# Altium integrated library Linear Technology Power Management Switching Regulator LTC1174-LTC3901.IntLib: 2647 symbols (part 356 of 364)
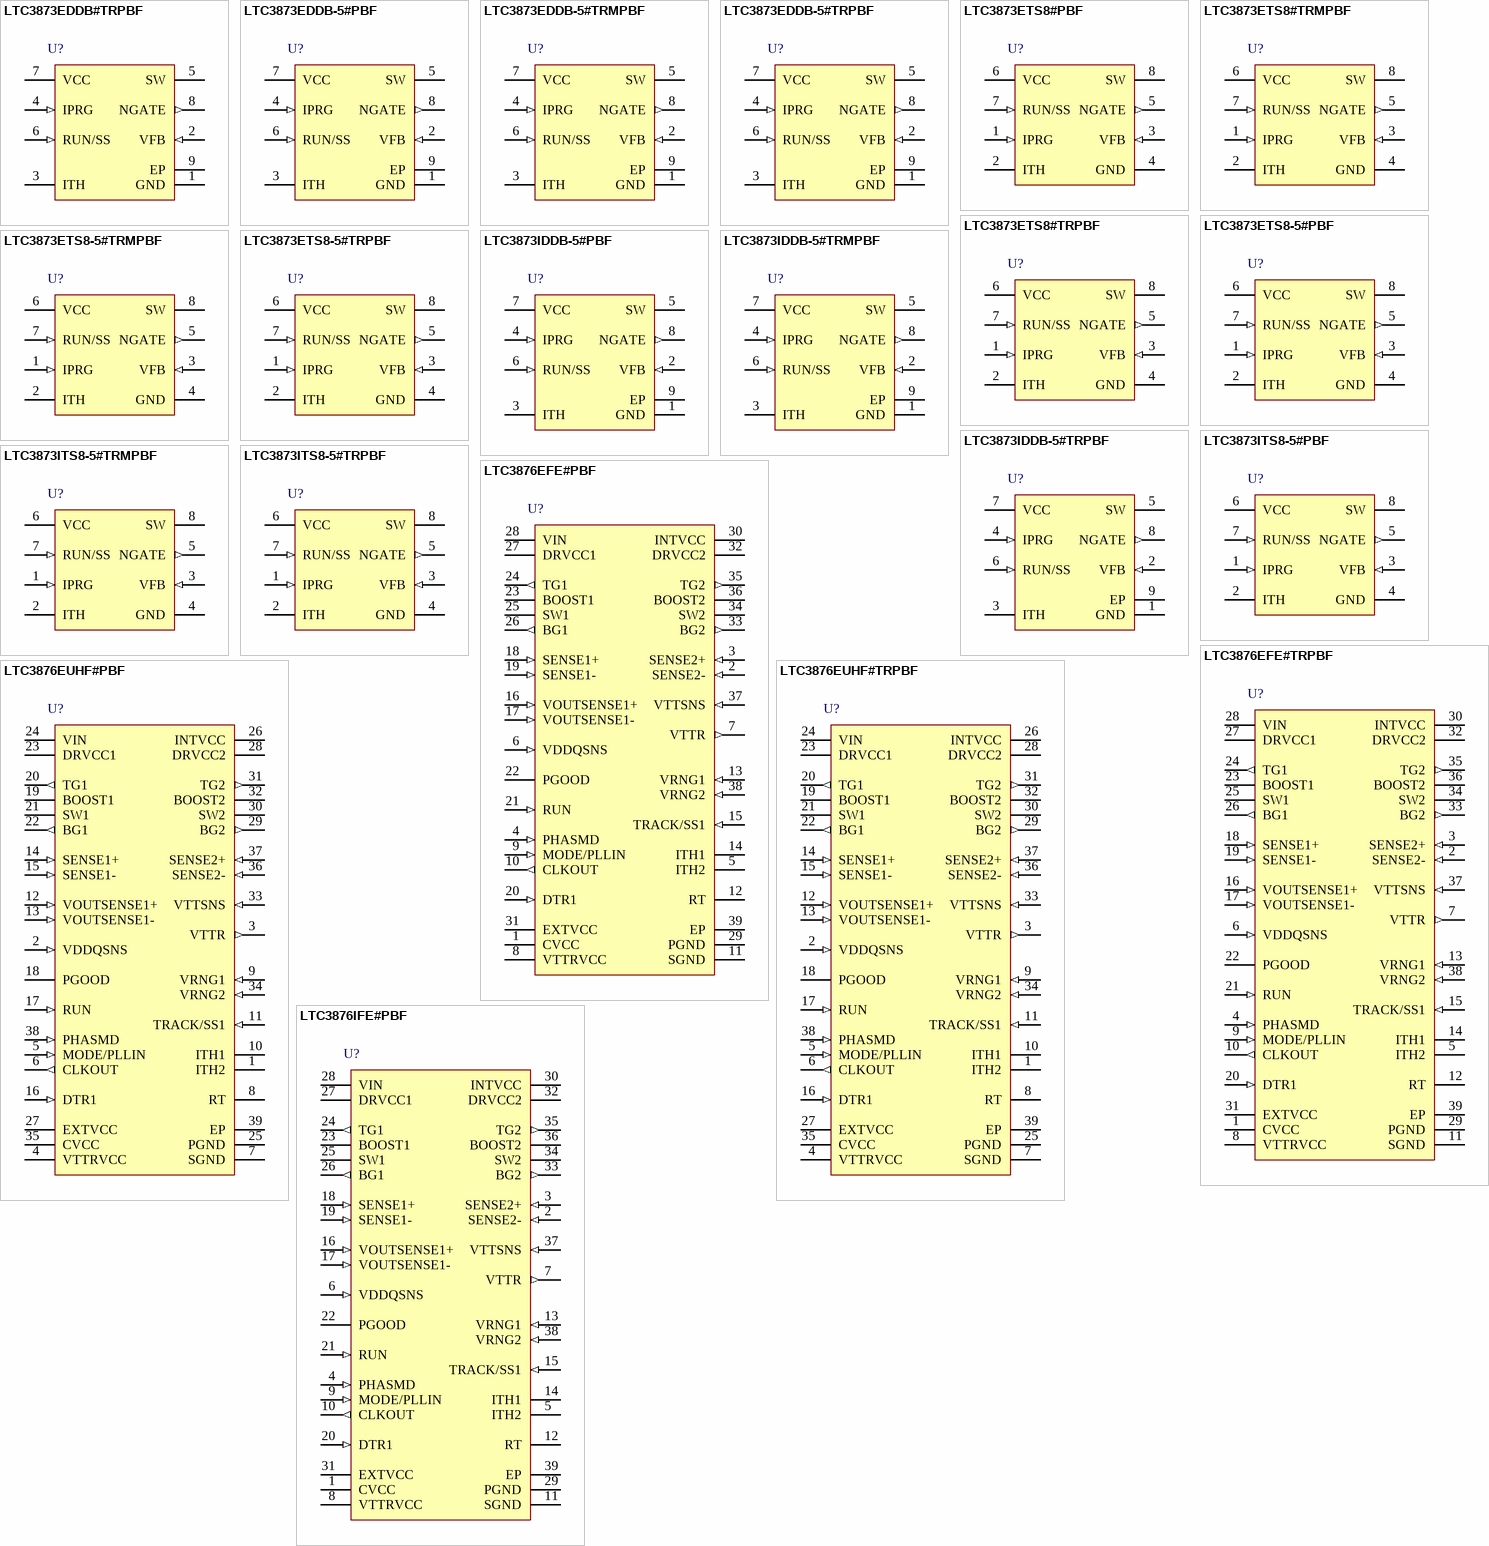
[diagram p301: symbols LTC3873EDDB#TRPBF to LTC3876IFE#PBF]

## LTC3876EFE#TRPBF
designator U?
Dual DC/DC Controller for DDR Power with Differential VDDQ Sensing and +/-50 mA VTT Reference, 38-pin SOP (FE-38-EPV-AA), -40 to 125 degC, Pb-Free, Tape and Reel; Manufacturer: Linear Technology; PartNumber: LTC3876EFE#TRPBF; Frequency Sync Range: 200kHz - 2MHz; Number of Outputs: 3; PackageVersion: Rev. C, 09/2010; PackageReference: FE-38; PackageDescription: 38-Pin Plastic TSSOP, Body 9.7 x 4.4 mm, Pitch 0.5 mm; Supplier 1: Digi-Key; Supplier Part Number 1: LTC3876EFE#TRPBF-ND; Packing: Tape and Reel; RoHS: TRUE; Mounting Technology: Surface Mount; ComponentLink1Description: Manufacturer URL; ComponentLink1URL: http://www.linear.com/; ComponentLink2Description: Datasheet; ComponentLink2URL: http://cds.linear.com/docs/en/datasheet/3876f.pdf; ComponentLink3Description: Package Specification; ComponentLink3URL: http://cds.linear.com/docs/en/packaging/TSSOP_38_05-08-1772.pdf
footprint LT-FE-38-EPV-AA_N (SOP, 38-Leads, Body 9.8x4.5mm, Pitch 0.5mm, Thermal Pad 4.75x2.74mm, IPC Medium Density)
footprint LT-FE-38-EPV-AA_L (SOP, 38-Leads, Body 9.8x4.5mm, Pitch 0.5mm, Thermal Pad 4.75x2.74mm, IPC High Density)
footprint LT-FE-38-EPV-AA_M (SOP, 38-Leads, Body 9.8x4.5mm, Pitch 0.5mm, Thermal Pad 4.75x2.74mm, IPC Low Density)
pins: 1 CVCC (power) "Connect VCC. This pin should always be connected to INTVCC.", 2 SENSE2- (in) "Differential Current Comparator(-) Input. The comparator can be used for RSENSE sensing or inductor DCR sensing. For RSENSE current sensing Kelvin (4-wire) connect the SENSE- pin to the (-) terminal of RSENSE. For DCR (See Datasheet)", 3 SENSE2+ (in) "Differential Current Comparator (+) Input. The ITH pin voltage and controlled offsets between the SENSE+ and SENSE- pins set the current trip threshold. The comparator can be used for RSENSE sensing or inductor DCR sensing. (See Datasheet)", 4 PHASMD (in) "Phase Selector Input. This pin determines the relative phases of channels and the CLKOUT signal. With zero phase being defined as the rising edge of TG1: Pulling this pin to SGND locks TG2 to 180degrees and CLKOUT to (See Datasheet)", 5 ITH2 "Channel 2 VTT Current Control Threshold. This pin is the output of the error amplifier and the switching regulator’s compensation point. The current comparator threshold increases with this control voltage. This voltag(See Datasheet)", 6 VDDQSNS (in) "VDDQ Sense. VDDQSNS provides the VDDQ regulation reference point to the VTT differential reference resistor divider. The positive Input to the VTT differential reference resistor divider is VDDQSNS and negative input is (See Datasheet)", 7 VTTR (out) "VTT Reference. VTTR is the buffered output of the VTT differential reference resistor divider. VTTR is specifically designed for large DDR memory systems by providing superior accuracy and load regulation specified for up to (See Datasheet)", 8 VTTRVCC (power) "VTTR Supply Input for VTTR Reference. Connect to DRVCC through an RC decoupling filter of 2.2uF and 1ohm typically.", 9 MODE/PLLIN (in) "Operation Mode Selection or External Clock Synchronization Input. When this pin is tied to INTVCC forced continuous mode operation is selected. Typing this pin to SGND allows discontinuous mode operation on channel 1, VDDQ (See Datasheet)", 10 CLKOUT (out) "Clock Output of Internal Clock Generator. Its output level swings between INTVCC and SGND. If clock input is present at the MODE/PLLIN pin, it will be synchronized to the input clock, with phase set by the PHASMD pin. If no (See Datasheet)", 11 SGND (power) "Signal Ground. All small-signal analog components should be connected to this ground. Connect SGND to the exposed pad and PGND pin using a single PCB trace.", 12 RT "Clock Generator Frequency Programming Pin. Connect an external resistor from RT to SGND to program the switching frequency between 200kHz and 2MHz. An external clock applied to MODE/PLLIN should be within +/-30% of this (See Datasheet)", 13 VRNG1 (in) "Current Sense Voltage Range Inputs. When programmed between 0.6V and 2V, the voltage applied to VRNG1,2 is twenty times (20x) the maximum sense voltage between SENSE1,2+ and SENSE1,2-, i.e., for either channel, (VSENSE+ - (See Datasheet)", 14 ITH1 "Channel 1 VDDQ Current Control Threshold. This pin is the output of the error amplifier and the switching regulator’s compensation point. The current comparator threshold increases with this control voltage. The voltag(See Datasheet)", 15 TRACK/SS1 (in) "External Tracking and SoftStart Input for Channel 1 VDDQ . An internal 1uA temperature-independent pull-up current source is connected to the TRACK/SS1 pin. A capacitor to ground at this pin sets the ramp time to the final (See Datasheet)", 16 VOUTSENSE1+ (in) "VDDQ Differential Output Sense Amplifier (+) Input of Channel 1. Connect this pin to a feedback resistor divider between the positive and negative output capacitor terminals of VOUT1. In nominal operation the LTC3876 will (See Datasheet)", 17 VOUTSENSE1- (in) "Differential Output Sense Amplifier (-) Input of Channel 1. Connect this pin to the negative terminal of the output load capacitor. This pin is the remote ground connection for VDDQSNS which provides the input to the VTT (See Datasheet)", 18 SENSE1+ (in) "Differential Current Comparator (+) Input. The ITH pin voltage and controlled offsets between the SENSE+ and SENSE- pins set the current trip threshold. The comparator can be used for RSENSE sensing or inductor DCR sensing. (See Datasheet)", 19 SENSE1- (in) "Differential Current Comparator(-) Input. The comparator can be used for RSENSE sensing or inductor DCR sensing. For RSENSE current sensing Kelvin (4-wire) connect the SENSE- pin to the (-) terminal of RSENSE. For DCR (See Datasheet)", 20 DTR1 (in) "Detect Load Transient Transient for Overshoot Reduction. When load current suddenly drops, if voltage on this DTR pin drops below half of INTVCC, the bottom gate (BG) will turn off and allow the inductor current to drop to (See Datasheet)", 21 RUN (in) "Run Control Input. An internal proportional-to-absolute temperature (PTAT) pull-up current source (~2.5uA at 25degrees) is constantly connected to this pin. Taking RUN below a threshold (~0.8V at 25degrees) shuts down all (See Datasheet)", 22 PGOOD (oc) "Power Good Indicator Output. This open-drain logic output is pulled to ground when VDDQ goes out of a +/-7.5% or VTT goes out of a +/-10% window around the regulation point, after a 50us power-bad masking delay. Returning to (See Datasheet)", 23 BOOST1 "Boosted Floating Driver Supply for Top MOSFET Drivers. The (+) terminal of the bootstrap capacitor CB connects to this pin. The BOOST pins swings between (DRVCC - VSCHOTTKY) and (VIN + DRVCC - VSCHOTTKY).", 24 TG1 (out) "Top Gate Driver Outputs. The TG pins drive the gates of the top N-channel power MOSFET with a voltage swing of DRVCC between SW and BOOST.", 25 SW1 "Switch Node Connection to Inductors. Voltage swings are from a diode voltage below ground to VIN. The (-) terminal of the bootstrap capacitor, CB connects to this node.", 26 BG1 (out) "Bottom Gate Driver Outputs. The BG pins drive the gates of the bottom N-channel power MOSFET between PGND and DRVCC.", 27 DRVCC1 (power) "Supplies of Bottom Gate Drivers. DRVCC1 is also the output of an internal 5.3V regulator, DRVCC2 is also the output of the EXTVCC switch. Normally the two DRVCC pins are shorted together on the PCB, and decoupled to PGND (See Datasheet)", 28 VIN (power) "Input Voltage Supply. The supply voltage can range from 4.5V to 38V. For increased noise immunity decouple this pin to SGND with an RC filter. Voltage at this pin is also used to adjust top gate on-time, therefore it is (See Datasheet)", 29 PGND (power) "Power Ground. Connect this pin as close as practical to the source of the bottom N-channel power MOSFET, the (-) terminal of CDRVCC and the (-) terminal of CIN. Connect the exposed pad and PGND pin to SGND pin using a single (See Datasheet)", 30 INTVCC (power) "Supply Input for Internal Circuitry (Not Including Gate Drivers). Normally powered from the DRVCC pins through a decoupling RC filter to SGND (typically 2.2ohm and 1uF)", 31 EXTVCC (power) "External Power Input. When EXTVCC exceeds 4.7V, an internal switch connects this pin to DRVCC2 and shuts down the internal regulator so that INTVCC and gate-drive power is drawn from EXTVCC. The VIN pin still needs to be (See Datasheet)", 32 DRVCC2 (power) "Supplies of Bottom Gate Drivers. DRVCC1 is also the output of an internal 5.3V regulator, DRVCC2 is also the output of the EXTVCC switch. Normally the two DRVCC pins are shorted together on the PCB, and decoupled to PGND (See Datasheet)", 33 BG2 (out) "Bottom Gate Driver Outputs. The BG pins drive the gates of the bottom N-channel power MOSFET between PGND and DRVCC.", 34 SW2 "Switch Node Connection to Inductors. Voltage swings are from a diode voltage below ground to VIN. The (-) terminal of the bootstrap capacitor, CB connects to this node.", 35 TG2 (out) "Top Gate Driver Outputs. The TG pins drive the gates of the top N-channel power MOSFET with a voltage swing of DRVCC between SW and BOOST.", 36 BOOST2 "Boosted Floating Driver Supply for Top MOSFET Drivers. The (+) terminal of the bootstrap capacitor CB connects to this pin. The BOOST pins swings between (DRVCC - VSCHOTTKY) and (VIN + DRVCC - VSCHOTTKY).", 37 VTTSNS (in) "VTT Sense, Channel 2 Error Amplifier Feedback Input. Kelvin-connect this pin directly to desired regulation point on the VTT supply, VTTSNS provides the inverting regulation feedback signal for the VTT termination supply. (See Datasheet)", 38 VRNG2 (in) "Current Sense Voltage Range Inputs. When programmed between 0.6V and 2V, the voltage applied to VRNG1,2 is twenty times (20x) the maximum sense voltage between SENSE1,2+ and SENSE1,2-, i.e., for either channel, (VSENSE+ - (See Datasheet)", 39 EP (power) "Power Ground. Connect this pin as close as practical to the source of the bottom N-channel power MOSFET, the (-) terminal of CDRVCC and the (-) terminal of CIN. Connect the exposed pad and PGND pin to SGND pin using a single (See Datasheet)"

## LTC3876EUHF#PBF
designator U?
Dual DC/DC Controller for DDR Power with Differential VDDQ Sensing and +/-50 mA VTT Reference, 38-pin QFN (UHF-38), -40 to 125 degC, Pb-Free; Manufacturer: Linear Technology; PartNumber: LTC3876EUHF#PBF; Frequency Sync Range: 200kHz - 2MHz; Number of Outputs: 3; PackageVersion: Rev. C, 06/2010; PackageReference: UHF-38; PackageDescription: 38-Pin Plastic QFN, Body 7 x 5 mm, Pitch 0.5 mm; Supplier 1: Digi-Key; Supplier Part Number 1: LTC3876EUHF#PBF-ND; Supplier 2: Newark; Supplier Part Number 2: 78T3283; RoHS: TRUE; Mounting Technology: Surface Mount; Code_JEDEC: MO-220; ComponentLink1Description: Manufacturer URL; ComponentLink1URL: http://www.linear.com/; ComponentLink2Description: Datasheet; ComponentLink2URL: http://cds.linear.com/docs/en/datasheet/3876f.pdf; ComponentLink3Description: Package Specification; ComponentLink3URL: http://cds.linear.com/docs/en/packaging/QFN_38_05-08-1701.pdf
footprint LT-UHF-38_N (QFN, 38-Leads, Body 7.1x5.1mm, Pitch 0.5mm, Thermal Pad 3.15x5.15mm, IPC Medium Density)
footprint LT-UHF-38_L (QFN, 38-Leads, Body 7.1x5.1mm, Pitch 0.5mm, Thermal Pad 3.15x5.15mm, IPC High Density)
footprint LT-UHF-38_M (QFN, 38-Leads, Body 7.1x5.1mm, Pitch 0.5mm, Thermal Pad 3.15x5.15mm, IPC Low Density)
pins: 1 ITH2 "Channel 2 VTT Current Control Threshold. This pin is the output of the error amplifier and the switching regulator’s compensation point. The current comparator threshold increases with this control voltage. This voltag(See Datasheet)", 2 VDDQSNS (in) "VDDQ Sense. VDDQSNS provides the VDDQ regulation reference point to the VTT differential reference resistor divider. The positive Input to the VTT differential reference resistor divider is VDDQSNS and negative input is (See Datasheet)", 3 VTTR (out) "VTT Reference. VTTR is the buffered output of the VTT differential reference resistor divider. VTTR is specifically designed for large DDR memory systems by providing superior accuracy and load regulation specified for up to (See Datasheet)", 4 VTTRVCC (power) "VTTR Supply Input for VTTR Reference. Connect to DRVCC through an RC decoupling filter of 2.2uF and 1ohm typically.", 5 MODE/PLLIN (in) "Operation Mode Selection or External Clock Synchronization Input. When this pin is tied to INTVCC forced continuous mode operation is selected. Typing this pin to SGND allows discontinuous mode operation on channel 1, VDDQ (See Datasheet)", 6 CLKOUT (out) "Clock Output of Internal Clock Generator. Its output level swings between INTVCC and SGND. If clock input is present at the MODE/PLLIN pin, it will be synchronized to the input clock, with phase set by the PHASMD pin. If no (See Datasheet)", 7 SGND (power) "Signal Ground. All small-signal analog components should be connected to this ground. Connect SGND to the exposed pad and PGND pin using a single PCB trace.", 8 RT "Clock Generator Frequency Programming Pin. Connect an external resistor from RT to SGND to program the switching frequency between 200kHz and 2MHz. An external clock applied to MODE/PLLIN should be within +/-30% of this (See Datasheet)", 9 VRNG1 (in) "Current Sense Voltage Range Inputs. When programmed between 0.6V and 2V, the voltage applied to VRNG1,2 is twenty times (20x) the maximum sense voltage between SENSE1,2+ and SENSE1,2-, i.e., for either channel, (VSENSE+ - (See Datasheet)", 10 ITH1 "Channel 1 VDDQ Current Control Threshold. This pin is the output of the error amplifier and the switching regulator’s compensation point. The current comparator threshold increases with this control voltage. The voltag(See Datasheet)", 11 TRACK/SS1 (in) "External Tracking and SoftStart Input for Channel 1 VDDQ . An internal 1uA temperature-independent pull-up current source is connected to the TRACK/SS1 pin. A capacitor to ground at this pin sets the ramp time to the final (See Datasheet)", 12 VOUTSENSE1+ (in) "VDDQ Differential Output Sense Amplifier (+) Input of Channel 1. Connect this pin to a feedback resistor divider between the positive and negative output capacitor terminals of VOUT1. In nominal operation the LTC3876 will (See Datasheet)", 13 VOUTSENSE1- (in) "Differential Output Sense Amplifier (-) Input of Channel 1. Connect this pin to the negative terminal of the output load capacitor. This pin is the remote ground connection for VDDQSNS which provides the input to the VTT (See Datasheet)", 14 SENSE1+ (in) "Differential Current Comparator (+) Input. The ITH pin voltage and controlled offsets between the SENSE+ and SENSE- pins set the current trip threshold. The comparator can be used for RSENSE sensing or inductor DCR sensing. (See Datasheet)", 15 SENSE1- (in) "Differential Current Comparator(-) Input. The comparator can be used for RSENSE sensing or inductor DCR sensing. For RSENSE current sensing Kelvin (4-wire) connect the SENSE- pin to the (-) terminal of RSENSE. For DCR (See Datasheet)", 16 DTR1 (in) "Detect Load Transient Transient for Overshoot Reduction. When load current suddenly drops, if voltage on this DTR pin drops below half of INTVCC, the bottom gate (BG) will turn off and allow the inductor current to drop to (See Datasheet)", 17 RUN (in) "Run Control Input. An internal proportional-to-absolute temperature (PTAT) pull-up current source (~2.5uA at 25degrees) is constantly connected to this pin. Taking RUN below a threshold (~0.8V at 25degrees) shuts down all (See Datasheet)", 18 PGOOD (oc) "Power Good Indicator Output. This open-drain logic output is pulled to ground when VDDQ goes out of a +/-7.5% or VTT goes out of a +/-10% window around the regulation point, after a 50us power-bad masking delay. Returning to (See Datasheet)", 19 BOOST1 "Boosted Floating Driver Supply for Top MOSFET Drivers. The (+) terminal of the bootstrap capacitor CB connects to this pin. The BOOST pins swings between (DRVCC - VSCHOTTKY) and (VIN + DRVCC - VSCHOTTKY).", 20 TG1 (out) "Top Gate Driver Outputs. The TG pins drive the gates of the top N-channel power MOSFET with a voltage swing of DRVCC between SW and BOOST.", 21 SW1 "Switch Node Connection to Inductors. Voltage swings are from a diode voltage below ground to VIN. The (-) terminal of the bootstrap capacitor, CB connects to this node.", 22 BG1 (out) "Bottom Gate Driver Outputs. The BG pins drive the gates of the bottom N-channel power MOSFET between PGND and DRVCC.", 23 DRVCC1 (power) "Supplies of Bottom Gate Drivers. DRVCC1 is also the output of an internal 5.3V regulator, DRVCC2 is also the output of the EXTVCC switch. Normally the two DRVCC pins are shorted together on the PCB, and decoupled to PGND (See Datasheet)", 24 VIN (power) "Input Voltage Supply. The supply voltage can range from 4.5V to 38V. For increased noise immunity decouple this pin to SGND with an RC filter. Voltage at this pin is also used to adjust top gate on-time, therefore it is (See Datasheet)", 25 PGND (power) "Power Ground. Connect this pin as close as practical to the source of the bottom N-channel power MOSFET, the (-) terminal of CDRVCC and the (-) terminal of CIN. Connect the exposed pad and PGND pin to SGND pin using a single (See Datasheet)", 26 INTVCC (power) "Supply Input for Internal Circuitry (Not Including Gate Drivers). Normally powered from the DRVCC pins through a decoupling RC filter to SGND (typically 2.2ohm and 1uF)", 27 EXTVCC (power) "External Power Input. When EXTVCC exceeds 4.7V, an internal switch connects this pin to DRVCC2 and shuts down the internal regulator so that INTVCC and gate-drive power is drawn from EXTVCC. The VIN pin still needs to be (See Datasheet)", 28 DRVCC2 (power) "Supplies of Bottom Gate Drivers. DRVCC1 is also the output of an internal 5.3V regulator, DRVCC2 is also the output of the EXTVCC switch. Normally the two DRVCC pins are shorted together on the PCB, and decoupled to PGND (See Datasheet)", 29 BG2 (out) "Bottom Gate Driver Outputs. The BG pins drive the gates of the bottom N-channel power MOSFET between PGND and DRVCC.", 30 SW2 "Switch Node Connection to Inductors. Voltage swings are from a diode voltage below ground to VIN. The (-) terminal of the bootstrap capacitor, CB connects to this node.", 31 TG2 (out) "Top Gate Driver Outputs. The TG pins drive the gates of the top N-channel power MOSFET with a voltage swing of DRVCC between SW and BOOST.", 32 BOOST2 "Boosted Floating Driver Supply for Top MOSFET Drivers. The (+) terminal of the bootstrap capacitor CB connects to this pin. The BOOST pins swings between (DRVCC - VSCHOTTKY) and (VIN + DRVCC - VSCHOTTKY).", 33 VTTSNS (in) "VTT Sense, Channel 2 Error Amplifier Feedback Input. Kelvin-connect this pin directly to desired regulation point on the VTT supply, VTTSNS provides the inverting regulation feedback signal for the VTT termination supply. (See Datasheet)", 34 VRNG2 (in) "Current Sense Voltage Range Inputs. When programmed between 0.6V and 2V, the voltage applied to VRNG1,2 is twenty times (20x) the maximum sense voltage between SENSE1,2+ and SENSE1,2-, i.e., for either channel, (VSENSE+ - (See Datasheet)", 35 CVCC (power) "Connect VCC. This pin should always be connected to INTVCC.", 36 SENSE2- (in) "Differential Current Comparator(-) Input. The comparator can be used for RSENSE sensing or inductor DCR sensing. For RSENSE current sensing Kelvin (4-wire) connect the SENSE- pin to the (-) terminal of RSENSE. For DCR (See Datasheet)", 37 SENSE2+ (in) "Differential Current Comparator (+) Input. The ITH pin voltage and controlled offsets between the SENSE+ and SENSE- pins set the current trip threshold. The comparator can be used for RSENSE sensing or inductor DCR sensing. (See Datasheet)", 38 PHASMD (in) "Phase Selector Input. This pin determines the relative phases of channels and the CLKOUT signal. With zero phase being defined as the rising edge of TG1: Pulling this pin to SGND locks TG2 to 180degrees and CLKOUT to (See Datasheet)", 39 EP (power) "Power Ground. Connect this pin as close as practical to the source of the bottom N-channel power MOSFET, the (-) terminal of CDRVCC and the (-) terminal of CIN. Connect the exposed pad and PGND pin to SGND pin using a single (See Datasheet)"

## LTC3876EUHF#TRPBF
designator U?
Dual DC/DC Controller for DDR Power with Differential VDDQ Sensing and +/-50 mA VTT Reference, 38-pin QFN (UHF-38), -40 to 125 degC, Pb-Free, Tape and Reel; Manufacturer: Linear Technology; PartNumber: LTC3876EUHF#TRPBF; Frequency Sync Range: 200kHz - 2MHz; Number of Outputs: 3; PackageVersion: Rev. C, 06/2010; PackageReference: UHF-38; PackageDescription: 38-Pin Plastic QFN, Body 7 x 5 mm, Pitch 0.5 mm; Supplier 1: Digi-Key; Supplier Part Number 1: LTC3876EUHF#TRPBF-ND; Packing: Tape and Reel; RoHS: TRUE; Mounting Technology: Surface Mount; Code_JEDEC: MO-220; ComponentLink1Description: Manufacturer URL; ComponentLink1URL: http://www.linear.com/; ComponentLink2Description: Datasheet; ComponentLink2URL: http://cds.linear.com/docs/en/datasheet/3876f.pdf; ComponentLink3Description: Package Specification; ComponentLink3URL: http://cds.linear.com/docs/en/packaging/QFN_38_05-08-1701.pdf
footprint LT-UHF-38_N (QFN, 38-Leads, Body 7.1x5.1mm, Pitch 0.5mm, Thermal Pad 3.15x5.15mm, IPC Medium Density)
footprint LT-UHF-38_L (QFN, 38-Leads, Body 7.1x5.1mm, Pitch 0.5mm, Thermal Pad 3.15x5.15mm, IPC High Density)
footprint LT-UHF-38_M (QFN, 38-Leads, Body 7.1x5.1mm, Pitch 0.5mm, Thermal Pad 3.15x5.15mm, IPC Low Density)
pins: 1 ITH2 "Channel 2 VTT Current Control Threshold. This pin is the output of the error amplifier and the switching regulator’s compensation point. The current comparator threshold increases with this control voltage. This voltag(See Datasheet)", 2 VDDQSNS (in) "VDDQ Sense. VDDQSNS provides the VDDQ regulation reference point to the VTT differential reference resistor divider. The positive Input to the VTT differential reference resistor divider is VDDQSNS and negative input is (See Datasheet)", 3 VTTR (out) "VTT Reference. VTTR is the buffered output of the VTT differential reference resistor divider. VTTR is specifically designed for large DDR memory systems by providing superior accuracy and load regulation specified for up to (See Datasheet)", 4 VTTRVCC (power) "VTTR Supply Input for VTTR Reference. Connect to DRVCC through an RC decoupling filter of 2.2uF and 1ohm typically.", 5 MODE/PLLIN (in) "Operation Mode Selection or External Clock Synchronization Input. When this pin is tied to INTVCC forced continuous mode operation is selected. Typing this pin to SGND allows discontinuous mode operation on channel 1, VDDQ (See Datasheet)", 6 CLKOUT (out) "Clock Output of Internal Clock Generator. Its output level swings between INTVCC and SGND. If clock input is present at the MODE/PLLIN pin, it will be synchronized to the input clock, with phase set by the PHASMD pin. If no (See Datasheet)", 7 SGND (power) "Signal Ground. All small-signal analog components should be connected to this ground. Connect SGND to the exposed pad and PGND pin using a single PCB trace.", 8 RT "Clock Generator Frequency Programming Pin. Connect an external resistor from RT to SGND to program the switching frequency between 200kHz and 2MHz. An external clock applied to MODE/PLLIN should be within +/-30% of this (See Datasheet)", 9 VRNG1 (in) "Current Sense Voltage Range Inputs. When programmed between 0.6V and 2V, the voltage applied to VRNG1,2 is twenty times (20x) the maximum sense voltage between SENSE1,2+ and SENSE1,2-, i.e., for either channel, (VSENSE+ - (See Datasheet)", 10 ITH1 "Channel 1 VDDQ Current Control Threshold. This pin is the output of the error amplifier and the switching regulator’s compensation point. The current comparator threshold increases with this control voltage. The voltag(See Datasheet)", 11 TRACK/SS1 (in) "External Tracking and SoftStart Input for Channel 1 VDDQ . An internal 1uA temperature-independent pull-up current source is connected to the TRACK/SS1 pin. A capacitor to ground at this pin sets the ramp time to the final (See Datasheet)", 12 VOUTSENSE1+ (in) "VDDQ Differential Output Sense Amplifier (+) Input of Channel 1. Connect this pin to a feedback resistor divider between the positive and negative output capacitor terminals of VOUT1. In nominal operation the LTC3876 will (See Datasheet)", 13 VOUTSENSE1- (in) "Differential Output Sense Amplifier (-) Input of Channel 1. Connect this pin to the negative terminal of the output load capacitor. This pin is the remote ground connection for VDDQSNS which provides the input to the VTT (See Datasheet)", 14 SENSE1+ (in) "Differential Current Comparator (+) Input. The ITH pin voltage and controlled offsets between the SENSE+ and SENSE- pins set the current trip threshold. The comparator can be used for RSENSE sensing or inductor DCR sensing. (See Datasheet)", 15 SENSE1- (in) "Differential Current Comparator(-) Input. The comparator can be used for RSENSE sensing or inductor DCR sensing. For RSENSE current sensing Kelvin (4-wire) connect the SENSE- pin to the (-) terminal of RSENSE. For DCR (See Datasheet)", 16 DTR1 (in) "Detect Load Transient Transient for Overshoot Reduction. When load current suddenly drops, if voltage on this DTR pin drops below half of INTVCC, the bottom gate (BG) will turn off and allow the inductor current to drop to (See Datasheet)", 17 RUN (in) "Run Control Input. An internal proportional-to-absolute temperature (PTAT) pull-up current source (~2.5uA at 25degrees) is constantly connected to this pin. Taking RUN below a threshold (~0.8V at 25degrees) shuts down all (See Datasheet)", 18 PGOOD (oc) "Power Good Indicator Output. This open-drain logic output is pulled to ground when VDDQ goes out of a +/-7.5% or VTT goes out of a +/-10% window around the regulation point, after a 50us power-bad masking delay. Returning to (See Datasheet)", 19 BOOST1 "Boosted Floating Driver Supply for Top MOSFET Drivers. The (+) terminal of the bootstrap capacitor CB connects to this pin. The BOOST pins swings between (DRVCC - VSCHOTTKY) and (VIN + DRVCC - VSCHOTTKY).", 20 TG1 (out) "Top Gate Driver Outputs. The TG pins drive the gates of the top N-channel power MOSFET with a voltage swing of DRVCC between SW and BOOST.", 21 SW1 "Switch Node Connection to Inductors. Voltage swings are from a diode voltage below ground to VIN. The (-) terminal of the bootstrap capacitor, CB connects to this node.", 22 BG1 (out) "Bottom Gate Driver Outputs. The BG pins drive the gates of the bottom N-channel power MOSFET between PGND and DRVCC.", 23 DRVCC1 (power) "Supplies of Bottom Gate Drivers. DRVCC1 is also the output of an internal 5.3V regulator, DRVCC2 is also the output of the EXTVCC switch. Normally the two DRVCC pins are shorted together on the PCB, and decoupled to PGND (See Datasheet)", 24 VIN (power) "Input Voltage Supply. The supply voltage can range from 4.5V to 38V. For increased noise immunity decouple this pin to SGND with an RC filter. Voltage at this pin is also used to adjust top gate on-time, therefore it is (See Datasheet)", 25 PGND (power) "Power Ground. Connect this pin as close as practical to the source of the bottom N-channel power MOSFET, the (-) terminal of CDRVCC and the (-) terminal of CIN. Connect the exposed pad and PGND pin to SGND pin using a single (See Datasheet)", 26 INTVCC (power) "Supply Input for Internal Circuitry (Not Including Gate Drivers). Normally powered from the DRVCC pins through a decoupling RC filter to SGND (typically 2.2ohm and 1uF)", 27 EXTVCC (power) "External Power Input. When EXTVCC exceeds 4.7V, an internal switch connects this pin to DRVCC2 and shuts down the internal regulator so that INTVCC and gate-drive power is drawn from EXTVCC. The VIN pin still needs to be (See Datasheet)", 28 DRVCC2 (power) "Supplies of Bottom Gate Drivers. DRVCC1 is also the output of an internal 5.3V regulator, DRVCC2 is also the output of the EXTVCC switch. Normally the two DRVCC pins are shorted together on the PCB, and decoupled to PGND (See Datasheet)", 29 BG2 (out) "Bottom Gate Driver Outputs. The BG pins drive the gates of the bottom N-channel power MOSFET between PGND and DRVCC.", 30 SW2 "Switch Node Connection to Inductors. Voltage swings are from a diode voltage below ground to VIN. The (-) terminal of the bootstrap capacitor, CB connects to this node.", 31 TG2 (out) "Top Gate Driver Outputs. The TG pins drive the gates of the top N-channel power MOSFET with a voltage swing of DRVCC between SW and BOOST.", 32 BOOST2 "Boosted Floating Driver Supply for Top MOSFET Drivers. The (+) terminal of the bootstrap capacitor CB connects to this pin. The BOOST pins swings between (DRVCC - VSCHOTTKY) and (VIN + DRVCC - VSCHOTTKY).", 33 VTTSNS (in) "VTT Sense, Channel 2 Error Amplifier Feedback Input. Kelvin-connect this pin directly to desired regulation point on the VTT supply, VTTSNS provides the inverting regulation feedback signal for the VTT termination supply. (See Datasheet)", 34 VRNG2 (in) "Current Sense Voltage Range Inputs. When programmed between 0.6V and 2V, the voltage applied to VRNG1,2 is twenty times (20x) the maximum sense voltage between SENSE1,2+ and SENSE1,2-, i.e., for either channel, (VSENSE+ - (See Datasheet)", 35 CVCC (power) "Connect VCC. This pin should always be connected to INTVCC.", 36 SENSE2- (in) "Differential Current Comparator(-) Input. The comparator can be used for RSENSE sensing or inductor DCR sensing. For RSENSE current sensing Kelvin (4-wire) connect the SENSE- pin to the (-) terminal of RSENSE. For DCR (See Datasheet)", 37 SENSE2+ (in) "Differential Current Comparator (+) Input. The ITH pin voltage and controlled offsets between the SENSE+ and SENSE- pins set the current trip threshold. The comparator can be used for RSENSE sensing or inductor DCR sensing. (See Datasheet)", 38 PHASMD (in) "Phase Selector Input. This pin determines the relative phases of channels and the CLKOUT signal. With zero phase being defined as the rising edge of TG1: Pulling this pin to SGND locks TG2 to 180degrees and CLKOUT to (See Datasheet)", 39 EP (power) "Power Ground. Connect this pin as close as practical to the source of the bottom N-channel power MOSFET, the (-) terminal of CDRVCC and the (-) terminal of CIN. Connect the exposed pad and PGND pin to SGND pin using a single (See Datasheet)"

## LTC3876IFE#PBF
designator U?
Dual DC/DC Controller for DDR Power with Differential VDDQ Sensing and +/-50 mA VTT Reference, 38-pin SOP (FE-38-EPV-AA), -40 to 125 degC, Pb-Free; Manufacturer: Linear Technology; PartNumber: LTC3876IFE#PBF; Frequency Sync Range: 200kHz - 2MHz; Number of Outputs: 3; PackageVersion: Rev. C, 09/2010; PackageReference: FE-38; PackageDescription: 38-Pin Plastic TSSOP, Body 9.7 x 4.4 mm, Pitch 0.5 mm; Supplier 1: Digi-Key; Supplier Part Number 1: LTC3876IFE#PBF-ND; RoHS: TRUE; Mounting Technology: Surface Mount; ComponentLink1Description: Manufacturer URL; ComponentLink1URL: http://www.linear.com/; ComponentLink2Description: Datasheet; ComponentLink2URL: http://cds.linear.com/docs/en/datasheet/3876f.pdf; ComponentLink3Description: Package Specification; ComponentLink3URL: http://cds.linear.com/docs/en/packaging/TSSOP_38_05-08-1772.pdf
footprint LT-FE-38-EPV-AA_N (SOP, 38-Leads, Body 9.8x4.5mm, Pitch 0.5mm, Thermal Pad 4.75x2.74mm, IPC Medium Density)
footprint LT-FE-38-EPV-AA_L (SOP, 38-Leads, Body 9.8x4.5mm, Pitch 0.5mm, Thermal Pad 4.75x2.74mm, IPC High Density)
footprint LT-FE-38-EPV-AA_M (SOP, 38-Leads, Body 9.8x4.5mm, Pitch 0.5mm, Thermal Pad 4.75x2.74mm, IPC Low Density)
pins: 1 CVCC (power) "Connect VCC. This pin should always be connected to INTVCC.", 2 SENSE2- (in) "Differential Current Comparator(-) Input. The comparator can be used for RSENSE sensing or inductor DCR sensing. For RSENSE current sensing Kelvin (4-wire) connect the SENSE- pin to the (-) terminal of RSENSE. For DCR (See Datasheet)", 3 SENSE2+ (in) "Differential Current Comparator (+) Input. The ITH pin voltage and controlled offsets between the SENSE+ and SENSE- pins set the current trip threshold. The comparator can be used for RSENSE sensing or inductor DCR sensing. (See Datasheet)", 4 PHASMD (in) "Phase Selector Input. This pin determines the relative phases of channels and the CLKOUT signal. With zero phase being defined as the rising edge of TG1: Pulling this pin to SGND locks TG2 to 180degrees and CLKOUT to (See Datasheet)", 5 ITH2 "Channel 2 VTT Current Control Threshold. This pin is the output of the error amplifier and the switching regulator’s compensation point. The current comparator threshold increases with this control voltage. This voltag(See Datasheet)", 6 VDDQSNS (in) "VDDQ Sense. VDDQSNS provides the VDDQ regulation reference point to the VTT differential reference resistor divider. The positive Input to the VTT differential reference resistor divider is VDDQSNS and negative input is (See Datasheet)", 7 VTTR (out) "VTT Reference. VTTR is the buffered output of the VTT differential reference resistor divider. VTTR is specifically designed for large DDR memory systems by providing superior accuracy and load regulation specified for up to (See Datasheet)", 8 VTTRVCC (power) "VTTR Supply Input for VTTR Reference. Connect to DRVCC through an RC decoupling filter of 2.2uF and 1ohm typically.", 9 MODE/PLLIN (in) "Operation Mode Selection or External Clock Synchronization Input. When this pin is tied to INTVCC forced continuous mode operation is selected. Typing this pin to SGND allows discontinuous mode operation on channel 1, VDDQ (See Datasheet)", 10 CLKOUT (out) "Clock Output of Internal Clock Generator. Its output level swings between INTVCC and SGND. If clock input is present at the MODE/PLLIN pin, it will be synchronized to the input clock, with phase set by the PHASMD pin. If no (See Datasheet)", 11 SGND (power) "Signal Ground. All small-signal analog components should be connected to this ground. Connect SGND to the exposed pad and PGND pin using a single PCB trace.", 12 RT "Clock Generator Frequency Programming Pin. Connect an external resistor from RT to SGND to program the switching frequency between 200kHz and 2MHz. An external clock applied to MODE/PLLIN should be within +/-30% of this (See Datasheet)", 13 VRNG1 (in) "Current Sense Voltage Range Inputs. When programmed between 0.6V and 2V, the voltage applied to VRNG1,2 is twenty times (20x) the maximum sense voltage between SENSE1,2+ and SENSE1,2-, i.e., for either channel, (VSENSE+ - (See Datasheet)", 14 ITH1 "Channel 1 VDDQ Current Control Threshold. This pin is the output of the error amplifier and the switching regulator’s compensation point. The current comparator threshold increases with this control voltage. The voltag(See Datasheet)", 15 TRACK/SS1 (in) "External Tracking and SoftStart Input for Channel 1 VDDQ . An internal 1uA temperature-independent pull-up current source is connected to the TRACK/SS1 pin. A capacitor to ground at this pin sets the ramp time to the final (See Datasheet)", 16 VOUTSENSE1+ (in) "VDDQ Differential Output Sense Amplifier (+) Input of Channel 1. Connect this pin to a feedback resistor divider between the positive and negative output capacitor terminals of VOUT1. In nominal operation the LTC3876 will (See Datasheet)", 17 VOUTSENSE1- (in) "Differential Output Sense Amplifier (-) Input of Channel 1. Connect this pin to the negative terminal of the output load capacitor. This pin is the remote ground connection for VDDQSNS which provides the input to the VTT (See Datasheet)", 18 SENSE1+ (in) "Differential Current Comparator (+) Input. The ITH pin voltage and controlled offsets between the SENSE+ and SENSE- pins set the current trip threshold. The comparator can be used for RSENSE sensing or inductor DCR sensing. (See Datasheet)", 19 SENSE1- (in) "Differential Current Comparator(-) Input. The comparator can be used for RSENSE sensing or inductor DCR sensing. For RSENSE current sensing Kelvin (4-wire) connect the SENSE- pin to the (-) terminal of RSENSE. For DCR (See Datasheet)", 20 DTR1 (in) "Detect Load Transient Transient for Overshoot Reduction. When load current suddenly drops, if voltage on this DTR pin drops below half of INTVCC, the bottom gate (BG) will turn off and allow the inductor current to drop to (See Datasheet)", 21 RUN (in) "Run Control Input. An internal proportional-to-absolute temperature (PTAT) pull-up current source (~2.5uA at 25degrees) is constantly connected to this pin. Taking RUN below a threshold (~0.8V at 25degrees) shuts down all (See Datasheet)", 22 PGOOD (oc) "Power Good Indicator Output. This open-drain logic output is pulled to ground when VDDQ goes out of a +/-7.5% or VTT goes out of a +/-10% window around the regulation point, after a 50us power-bad masking delay. Returning to (See Datasheet)", 23 BOOST1 "Boosted Floating Driver Supply for Top MOSFET Drivers. The (+) terminal of the bootstrap capacitor CB connects to this pin. The BOOST pins swings between (DRVCC - VSCHOTTKY) and (VIN + DRVCC - VSCHOTTKY).", 24 TG1 (out) "Top Gate Driver Outputs. The TG pins drive the gates of the top N-channel power MOSFET with a voltage swing of DRVCC between SW and BOOST.", 25 SW1 "Switch Node Connection to Inductors. Voltage swings are from a diode voltage below ground to VIN. The (-) terminal of the bootstrap capacitor, CB connects to this node.", 26 BG1 (out) "Bottom Gate Driver Outputs. The BG pins drive the gates of the bottom N-channel power MOSFET between PGND and DRVCC.", 27 DRVCC1 (power) "Supplies of Bottom Gate Drivers. DRVCC1 is also the output of an internal 5.3V regulator, DRVCC2 is also the output of the EXTVCC switch. Normally the two DRVCC pins are shorted together on the PCB, and decoupled to PGND (See Datasheet)", 28 VIN (power) "Input Voltage Supply. The supply voltage can range from 4.5V to 38V. For increased noise immunity decouple this pin to SGND with an RC filter. Voltage at this pin is also used to adjust top gate on-time, therefore it is (See Datasheet)", 29 PGND (power) "Power Ground. Connect this pin as close as practical to the source of the bottom N-channel power MOSFET, the (-) terminal of CDRVCC and the (-) terminal of CIN. Connect the exposed pad and PGND pin to SGND pin using a single (See Datasheet)", 30 INTVCC (power) "Supply Input for Internal Circuitry (Not Including Gate Drivers). Normally powered from the DRVCC pins through a decoupling RC filter to SGND (typically 2.2ohm and 1uF)", 31 EXTVCC (power) "External Power Input. When EXTVCC exceeds 4.7V, an internal switch connects this pin to DRVCC2 and shuts down the internal regulator so that INTVCC and gate-drive power is drawn from EXTVCC. The VIN pin still needs to be (See Datasheet)", 32 DRVCC2 (power) "Supplies of Bottom Gate Drivers. DRVCC1 is also the output of an internal 5.3V regulator, DRVCC2 is also the output of the EXTVCC switch. Normally the two DRVCC pins are shorted together on the PCB, and decoupled to PGND (See Datasheet)", 33 BG2 (out) "Bottom Gate Driver Outputs. The BG pins drive the gates of the bottom N-channel power MOSFET between PGND and DRVCC.", 34 SW2 "Switch Node Connection to Inductors. Voltage swings are from a diode voltage below ground to VIN. The (-) terminal of the bootstrap capacitor, CB connects to this node.", 35 TG2 (out) "Top Gate Driver Outputs. The TG pins drive the gates of the top N-channel power MOSFET with a voltage swing of DRVCC between SW and BOOST.", 36 BOOST2 "Boosted Floating Driver Supply for Top MOSFET Drivers. The (+) terminal of the bootstrap capacitor CB connects to this pin. The BOOST pins swings between (DRVCC - VSCHOTTKY) and (VIN + DRVCC - VSCHOTTKY).", 37 VTTSNS (in) "VTT Sense, Channel 2 Error Amplifier Feedback Input. Kelvin-connect this pin directly to desired regulation point on the VTT supply, VTTSNS provides the inverting regulation feedback signal for the VTT termination supply. (See Datasheet)", 38 VRNG2 (in) "Current Sense Voltage Range Inputs. When programmed between 0.6V and 2V, the voltage applied to VRNG1,2 is twenty times (20x) the maximum sense voltage between SENSE1,2+ and SENSE1,2-, i.e., for either channel, (VSENSE+ - (See Datasheet)", 39 EP (power) "Power Ground. Connect this pin as close as practical to the source of the bottom N-channel power MOSFET, the (-) terminal of CDRVCC and the (-) terminal of CIN. Connect the exposed pad and PGND pin to SGND pin using a single (See Datasheet)"

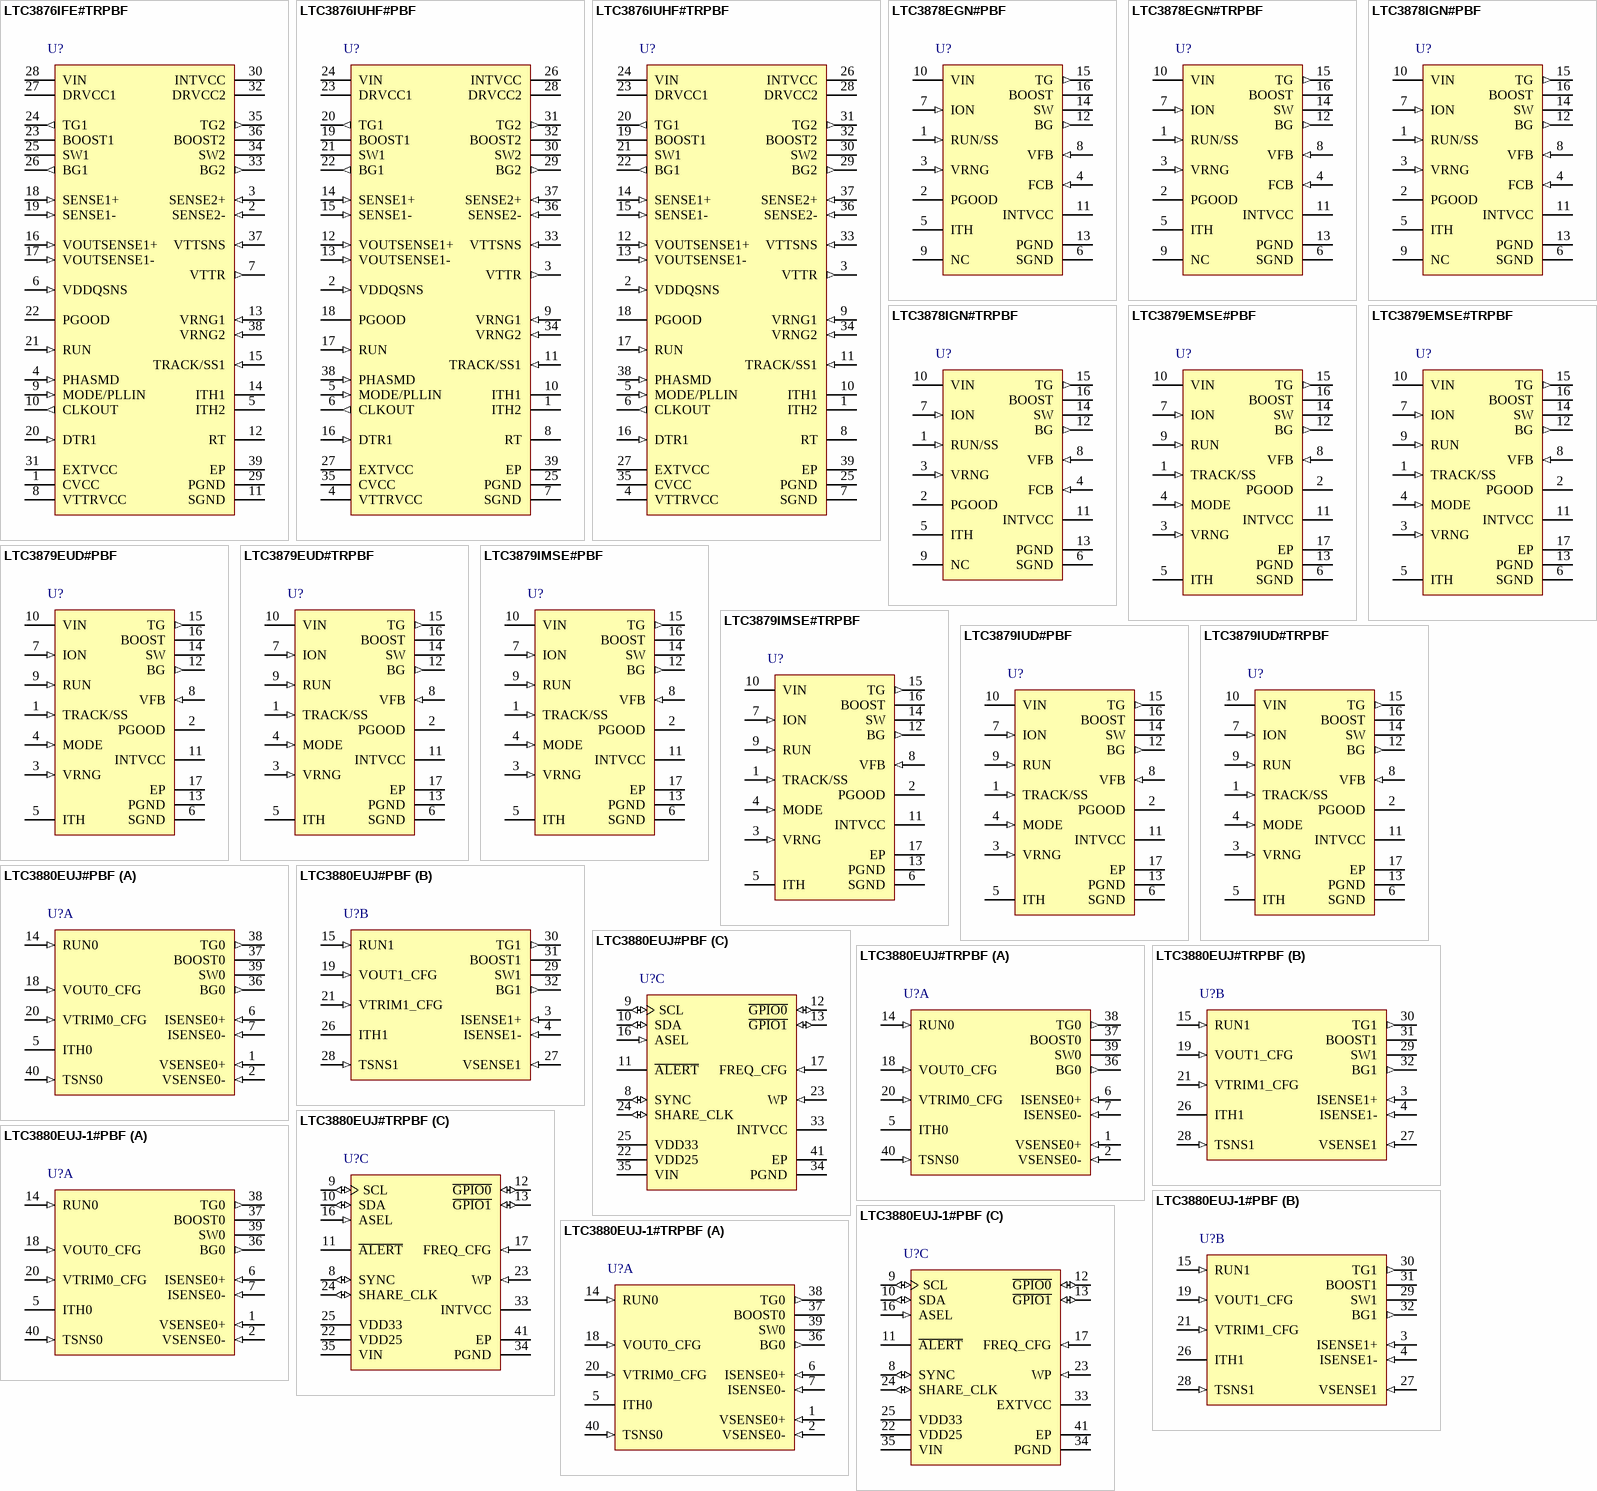
[diagram p111: symbols LTC3876IFE#TRPBF to LTC3880EUJ-1#TRPBF]